# EAGLE library part IT9919 (library CrystalVideo)
ITE IT9199-N H.264 Encoder SOC
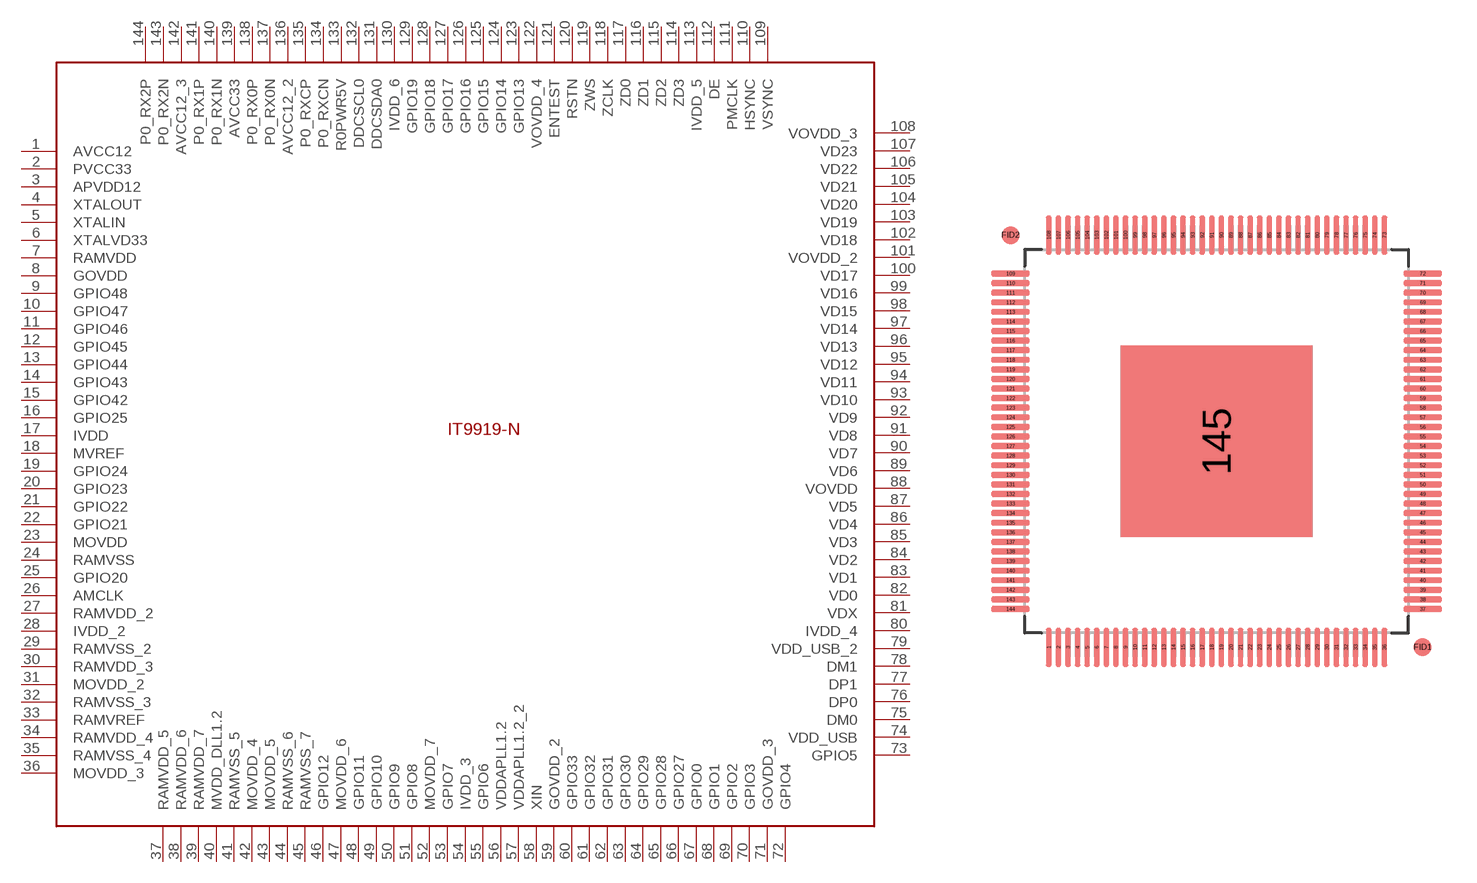
[diagram p2: symbol with the pads of QFP145P40_IT9910_8X8; footprint QFP145P40_IT9910_8X8]

Designator prefix -

## IT9919  [QFP145P40_IT9910_8X8]
1  AVCC12
2  PVCC33
3  APVDD12
4  XTALOUT
5  XTALIN
6  XTALVD33
7  RAMVDD
8  GOVDD
9  GPIO48
10  GPIO47
11  GPIO46
12  GPIO45
13  GPIO44
14  GPIO43
15  GPIO42
16  GPIO25
17  IVDD
18  MVREF
19  GPIO24
20  GPIO23
21  GPIO22
22  GPIO21
23  MOVDD
24  RAMVSS
25  GPIO20
26  AMCLK
27  RAMVDD_2
28  IVDD_2
29  RAMVSS_2
30  RAMVDD_3
31  MOVDD_2
32  RAMVSS_3
33  RAMVREF
34  RAMVDD_4
35  RAMVSS_4
36  MOVDD_3
37  RAMVDD_5
38  RAMVDD_6
39  RAMVDD_7
40  MVDD_DLL1.2
41  RAMVSS_5
42  MOVDD_4
43  MOVDD_5
44  RAMVSS_6
45  RAMVSS_7
46  GPIO12
47  MOVDD_6
48  GPIO11
49  GPIO10
50  GPIO9
51  GPIO8
52  MOVDD_7
53  GPIO7
54  IVDD_3
55  GPIO6
56  VDDAPLL1.2
57  VDDAPLL1.2_2
58  XIN
59  GOVDD_2
60  GPIO33
61  GPIO32
62  GPIO31
63  GPIO30
64  GPIO29
65  GPIO28
66  GPIO27
67  GPIO0
68  GPIO1
69  GPIO2
70  GPIO3
71  GOVDD_3
72  GPIO4
73  GPIO5
74  VDD_USB
75  DM0
76  DP0
77  DP1
78  DM1
79  VDD_USB_2
80  IVDD_4
81  VDX
82  VD0
83  VD1
84  VD2
85  VD3
86  VD4
87  VD5
88  VOVDD
89  VD6
90  VD7
91  VD8
92  VD9
93  VD10
94  VD11
95  VD12
96  VD13
97  VD14
98  VD15
99  VD16
100  VD17
101  VOVDD_2
102  VD18
103  VD19
104  VD20
105  VD21
106  VD22
107  VD23
108  VOVDD_3
109  VSYNC
110  HSYNC
111  PMCLK
112  DE
113  IVDD_5
114  ZD3
115  ZD2
116  ZD1
117  ZD0
118  ZCLK
119  ZWS
120  RSTN
121  ENTEST
122  VOVDD_4
123  GPIO13
124  GPIO14
125  GPIO15
126  GPIO16
127  GPIO17
128  GPIO18
129  GPIO19
130  IVDD_6
131  DDCSDA0
132  DDCSCL0
133  R0PWR5V
134  P0_RXCN
135  P0_RXCP
136  AVCC12_2
137  P0_RX0N
138  P0_RX0P
139  AVCC33
140  P0_RX1N
141  P0_RX1P
142  AVCC12_3
143  P0_RX2N
144  P0_RX2P

## Footprint QFP145P40_IT9910_8X8 (pad centres in mm)
IT9910 Package Quad Flat Pack (QFP with Tab), 0.40 mm pitch; square, 36 pin X 36 pin, 16.00 mm L X 16.00 mm W X 1.20 mm H body PCB Libraries Packages
smd 0.24 x 1.61: 1 -7,-8.6; 2 -6.6,-8.6; 3 -6.2,-8.6; 4 -5.8,-8.6; 5 -5.4,-8.6; 6 -5,-8.6; 7 -4.6,-8.6; 8 -4.2,-8.6; 9 -3.8,-8.6; 10 -3.4,-8.6; 11 -3,-8.6; 12 -2.6,-8.6; 13 -2.2,-8.6; 14 -1.8,-8.6; 15 -1.4,-8.6; 16 -1,-8.6; 17 -0.6,-8.6; 18 -0.2,-8.6; 19 0.2,-8.6; 20 0.6,-8.6; 21 1,-8.6; 22 1.4,-8.6; 23 1.8,-8.6; 24 2.2,-8.6; 25 2.6,-8.6; 26 3,-8.6; 27 3.4,-8.6; 28 3.8,-8.6; 29 4.2,-8.6; 30 4.6,-8.6; 31 5,-8.6; 32 5.4,-8.6; 33 5.8,-8.6; 34 6.2,-8.6; 35 6.6,-8.6; 36 7,-8.6; 73 7,8.6; 74 6.6,8.6; 75 6.2,8.6; 76 5.8,8.6; 77 5.4,8.6; 78 5,8.6; 79 4.6,8.6; 80 4.2,8.6; 81 3.8,8.6; 82 3.4,8.6; 83 3,8.6; 84 2.6,8.6; 85 2.2,8.6; 86 1.8,8.6; 87 1.4,8.6; 88 1,8.6; 89 0.6,8.6; 90 0.2,8.6; 91 -0.2,8.6; 92 -0.6,8.6; 93 -1,8.6; 94 -1.4,8.6; 95 -1.8,8.6; 96 -2.2,8.6; 97 -2.6,8.6; 98 -3,8.6; 99 -3.4,8.6; 100 -3.8,8.6; 101 -4.2,8.6; 102 -4.6,8.6; 103 -5,8.6; 104 -5.4,8.6; 105 -5.8,8.6; 106 -6.2,8.6; 107 -6.6,8.6; 108 -7,8.6
smd 1.61 x 0.24: 37 8.6,-7; 38 8.6,-6.6; 39 8.6,-6.2; 40 8.6,-5.8; 41 8.6,-5.4; 42 8.6,-5; 43 8.6,-4.6; 44 8.6,-4.2; 45 8.6,-3.8; 46 8.6,-3.4; 47 8.6,-3; 48 8.6,-2.6; 49 8.6,-2.2; 50 8.6,-1.8; 51 8.6,-1.4; 52 8.6,-1; 53 8.6,-0.6; 54 8.6,-0.2; 55 8.6,0.2; 56 8.6,0.6; 57 8.6,1; 58 8.6,1.4; 59 8.6,1.8; 60 8.6,2.2; 61 8.6,2.6; 62 8.6,3; 63 8.6,3.4; 64 8.6,3.8; 65 8.6,4.2; 66 8.6,4.6; 67 8.6,5; 68 8.6,5.4; 69 8.6,5.8; 70 8.6,6.2; 71 8.6,6.6; 72 8.6,7; 109 -8.6,7; 110 -8.6,6.6; 111 -8.6,6.2; 112 -8.6,5.8; 113 -8.6,5.4; 114 -8.6,5; 115 -8.6,4.6; 116 -8.6,4.2; 117 -8.6,3.8; 118 -8.6,3.4; 119 -8.6,3; 120 -8.6,2.6; 121 -8.6,2.2; 122 -8.6,1.8; 123 -8.6,1.4; 124 -8.6,1; 125 -8.6,0.6; 126 -8.6,0.2; 127 -8.6,-0.2; 128 -8.6,-0.6; 129 -8.6,-1; 130 -8.6,-1.4; 131 -8.6,-1.8; 132 -8.6,-2.2; 133 -8.6,-2.6; 134 -8.6,-3; 135 -8.6,-3.4; 136 -8.6,-3.8; 137 -8.6,-4.2; 138 -8.6,-4.6; 139 -8.6,-5; 140 -8.6,-5.4; 141 -8.6,-5.8; 142 -8.6,-6.2; 143 -8.6,-6.6; 144 -8.6,-7
smd 8 x 8: 145 0,0
smd 0.75 x 0.75: FID1 8.6,-8.6; FID2 -8.6,8.6